# Altium schematic symbol library AMPLA5030S-6R8MT.SchLib: 1 symbol
Pins are listed as number, name and electrical type; pins without a type are passive.

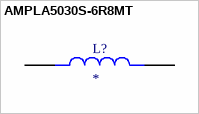
[diagram p0: symbol AMPLA5030S-6R8MT]

## AMPLA5030S-6R8MT
designator L?
Inductor Power Shielded/Molded Wirewound 6.8uH 20% 100KHz Carbonyl Powder 4A 0.0762Ohm DCR 2220 T/R; MF: Abracon LLC; MP: AMPLA5030S-6R8MT; Package: Package; Price: None; Value: *; SnapEDA_Link: https://www.snapeda.com/parts/AMPLA5030S-6R8MT/Abracon+LLC/view-part/?ref=snap; Availability: Unavailable; Check_prices: https://www.snapeda.com/parts/AMPLA5030S-6R8MT/Abracon+LLC/view-part/?ref=eda
footprint IND_AMPLA5030S-6R8MT
pins: 1, 2